# Altium schematic symbol library Elet_pot_2.SchLib: 20 symbols
Pins are listed as number, name and electrical type; pins without a type are passive.

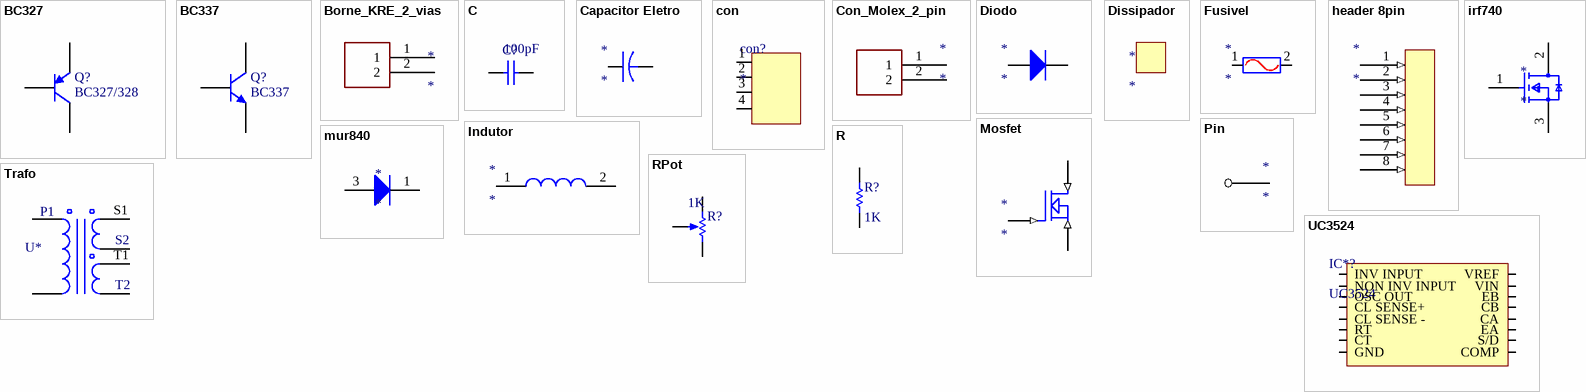
[diagram p0: symbols BC327 to UC3524]

## BC327
designator Q?, comment BC327/328
PNP Bipolar Transistor; Published: 8-Jun-2000; LatestRevisionDate: 29-May-2009; LatestRevisionNote: IPC-7351 Footprint Added.; PackageVersion: Aug-1999; PackageReference: SOT-23B; Publisher: Altium Limited; PackageDescription: 3-Pin SOT-23 Package 0.95 mm Pitch, 2.4 mm Lead Span
footprint TO92 (TO, Flat Index; 3 In-Line, Axial Leads; Body Dia. 4.8mm; Leads 0.51 x 0.51 mm (max))
footprint SOT95P240-3L (SOT23, 3-Leads, Body 2.9x1.3mm, Pitch 0.95mm, Lead Span 2.4mm, IPC High Density)
footprint SOT95P240-3M (SOT23, 3-Leads, Body 2.9x1.3mm, Pitch 0.95mm, Lead Span 2.4mm, IPC Low Density)
simulation model PNP
signal-integrity model PNP
pins: 1 C, 2 B, 3 E

## BC337
designator Q?
BC337/338; Published: 8-Jun-2000; LatestRevisionDate: 17-Jul-2002; LatestRevisionNote: Re-released for DXP Platform.; PackageReference: TO-226; Publisher: Altium Limited; Code_JEDEC: TO-226-AA
footprint TO92 (TO, Flat Index; 3 In-Line, Axial Leads; Body Dia. 4.8mm; Leads 0.51 x 0.51 mm (max))
simulation model NPN
signal-integrity model NPN
pins: 1 C, 2 B, 3 E

## Borne_KRE_2_vias
designator *
footprint Borne_KRE_2pin
pins: 1, 2

## C
designator C?  value 100pF  (hidden comment: C)
Capacitor; Published: 8-Jun-2000; LatestRevisionDate: 17-Jul-2002; LatestRevisionNote: Re-released for DXP Platform.; PackageReference: RAD-0.3; Publisher: Altium Limited
footprint CAP100RP
pins: 1, 2

## Capacitor Eletro
designator *
footprint Capacitor
pins: 1, 2

## con
designator con?
male 2.54mm connector.
footprint Connector (Conector 2.54mm)
pins: 1, 2, 3, 4

## Con_Molex_2_pin
designator *
footprint CON_MOLEX_2_vias
pins: 1, 2

## Diodo
designator *
pins: 1 A, 2 K

## Dissipador
designator *
footprint Dissipador

## Fusivel
designator *
footprint Fusivel
pins: 1, 2

## header 8pin
designator *
footprint Header 8pin
pins: 1 (in), 2 1 (in), 3 (in), 4 (in), 5 (in), 6 (in), 7 (in), 8 (in)

## Indutor
designator *
footprint Indutor
pins: 1, 2

## irf740
designator *
footprint IRF740
pins: 1 G, 2 D, 3 S

## Mosfet
designator *
footprint TO247
pins: D (in), G (in), S (in)

## mur840
designator *
footprint MUR840
pins: 1 K, 3 A

## Pin
designator *
pins: 1

## R
designator R?  value 1K  (hidden comment: R)
Resistor; Published: 8-Jun-2000; LatestRevisionDate: 17-Jul-2002; LatestRevisionNote: Re-released for DXP Platform.; PackageReference: AXIAL-0.3; Publisher: Altium Limited
footprint AXIAL-0.3
simulation model RESISTOR (Resistor)
signal-integrity model Res
pins: 1, 2

## RPot
designator R?  value 1K
Potentiometer; Sim Note: Enter the Resistance value and the set point into parameter fields.; Set Position: 0.5; Published: 8-Jun-2000; LatestRevisionDate: 17-Jul-2002; LatestRevisionNote: Re-released for DXP Platform.; PackageReference: VR5; Publisher: Altium Limited
footprint 3006-p (Trimpot bourns 3006-p three terminals)
simulation model POT (Potentiometer)
pins: 1 TOP, 2 BOT, 3 TAP
1 alternate drawing of the same symbol

## Trafo
designator U*  (value not drawn)
Transformador de 3 enrolamentos
footprint Trafo_NEE_30/14
pins: P1, P2 gg, S1, S2, S2, T1
text: T2

## UC3524
designator IC*?
ADVANCED REGULATING PULSE WIDTH MODULATORS
footprint DIP-16-KEY
pins: 1 INV INPUT, 2 NON INV INPUT, 3 OSC OUT, 4 CL SENSE+, 5 CL SENSE -, 6 RT, 7 CT, 8 GND, 9 COMP, 10 S/D, 11 EA, 12 CA, 13 CB, 14 EB, 15 VIN, 16 VREF